# Altium schematic symbol library STLINK-V3MODS.SchLib: 1 symbol
Pins are listed as number, name and electrical type; pins without a type are passive.

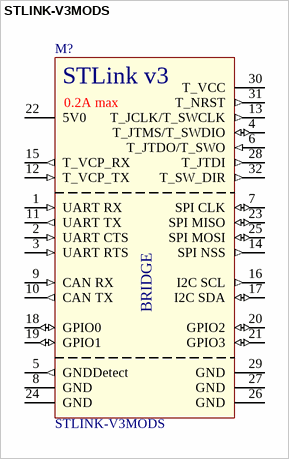
[diagram p0: symbol STLINK-V3MODS]

## STLINK-V3MODS
designator M?
value: STLINK-V3MODS
footprint STLINK-V3-MODS
pins: 1 UART RX (in), 2 UART CTS (in), 3 UART RTS (in), 4 T_JTMS/T_SWDIO (io), 5 GNDDetect (out), 6 T_JTDO/T_SWO (in), 7 SPI CLK (io), 8 GND (power), 9 CAN RX (in), 10 CAN TX (out), 11 UART TX (out), 12 T_VCP_TX (in), 13 T_JCLK/T_SWCLK (out), 14 SPI NSS (out), 15 T_VCP_RX (out), 16 I2C SCL (out), 17 I2C SDA (io), 18 GPIO0 (io), 19 GPIO1 (io), 20 GPIO2 (io), 21 GPIO3 (io), 22 5V0 (power), 23 SPI MISO (io), 24 GND (power), 25 SPI MOSI (io), 26 GND (power), 27 GND (power), 28 T_JTDI (out), 29 GND (power), 30 T_VCC (power), 31 T_NRST (out), 32 T_SW_DIR (out)
text: STLink v3; 0.2A max; BRIDGE